# EAGLE library part AD8295 (library my_library)
Precision Instrumentation Amplifier with Signal Processing Amplifiers Includes precision in-amp, 2 op amps, and 2 matched resistors Analog Devices: http://www.analog.com/media/en/technical-documentation/data-sheets/AD8295.pdf Digikey: https://www.digikey.com/product-detail/en/analog-devices-inc/AD8295ACPZ-R7/AD8295ACPZ-R7TR-ND/1979379
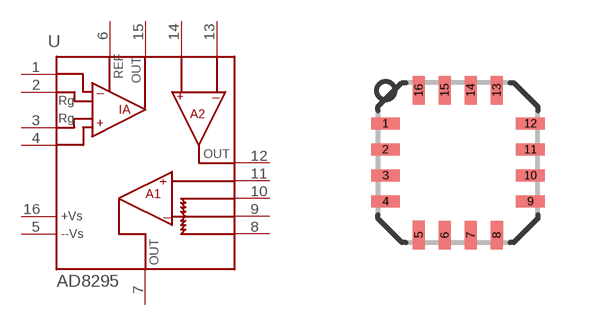
[diagram p7: symbol with the pads of LFCSP16-4X4-NP; footprint LFCSP16-4X4-NP]

Designator prefix U

## AD8295  [LFCSP16-4X4-NP]
1  -IN
2  RG
3  RG'
4  +IN
5  -VS
6  REF
7  A1OUT
8  A1R2
9  A1-IN
10  A1R1
11  A1+IN
12  A2OUT
13  A2-IN
14  A2+IN
15  OUT
16  +VS

## Footprint LFCSP16-4X4-NP (pad centres in mm)
smd 0.72 x 0.3: 1 -1.812,0.975; 2 -1.812,0.325; 3 -1.812,-0.325; 4 -1.812,-0.975; 9 1.812,-0.975; 10 1.812,-0.325; 11 1.812,0.325; 12 1.812,0.975
smd 0.3 x 0.72: 5 -0.975,-1.812; 6 -0.325,-1.812; 7 0.325,-1.812; 8 0.975,-1.812; 13 0.975,1.812; 14 0.325,1.812; 15 -0.325,1.812; 16 -0.975,1.812